# Altium footprint library PCB_Project_PCBparts.PcbLib: 18 footprints (part 1 of 2)
Each footprint in its own frame and in the unit in brackets; x right, y up, seen from the top. Pads: shape width x height; smd on the part's side, far side on the other; paste and mask are expansions set on the pad; w line width, h text height; cw(c..) or ccw(c..) is an arc to the next point about the centre after c.
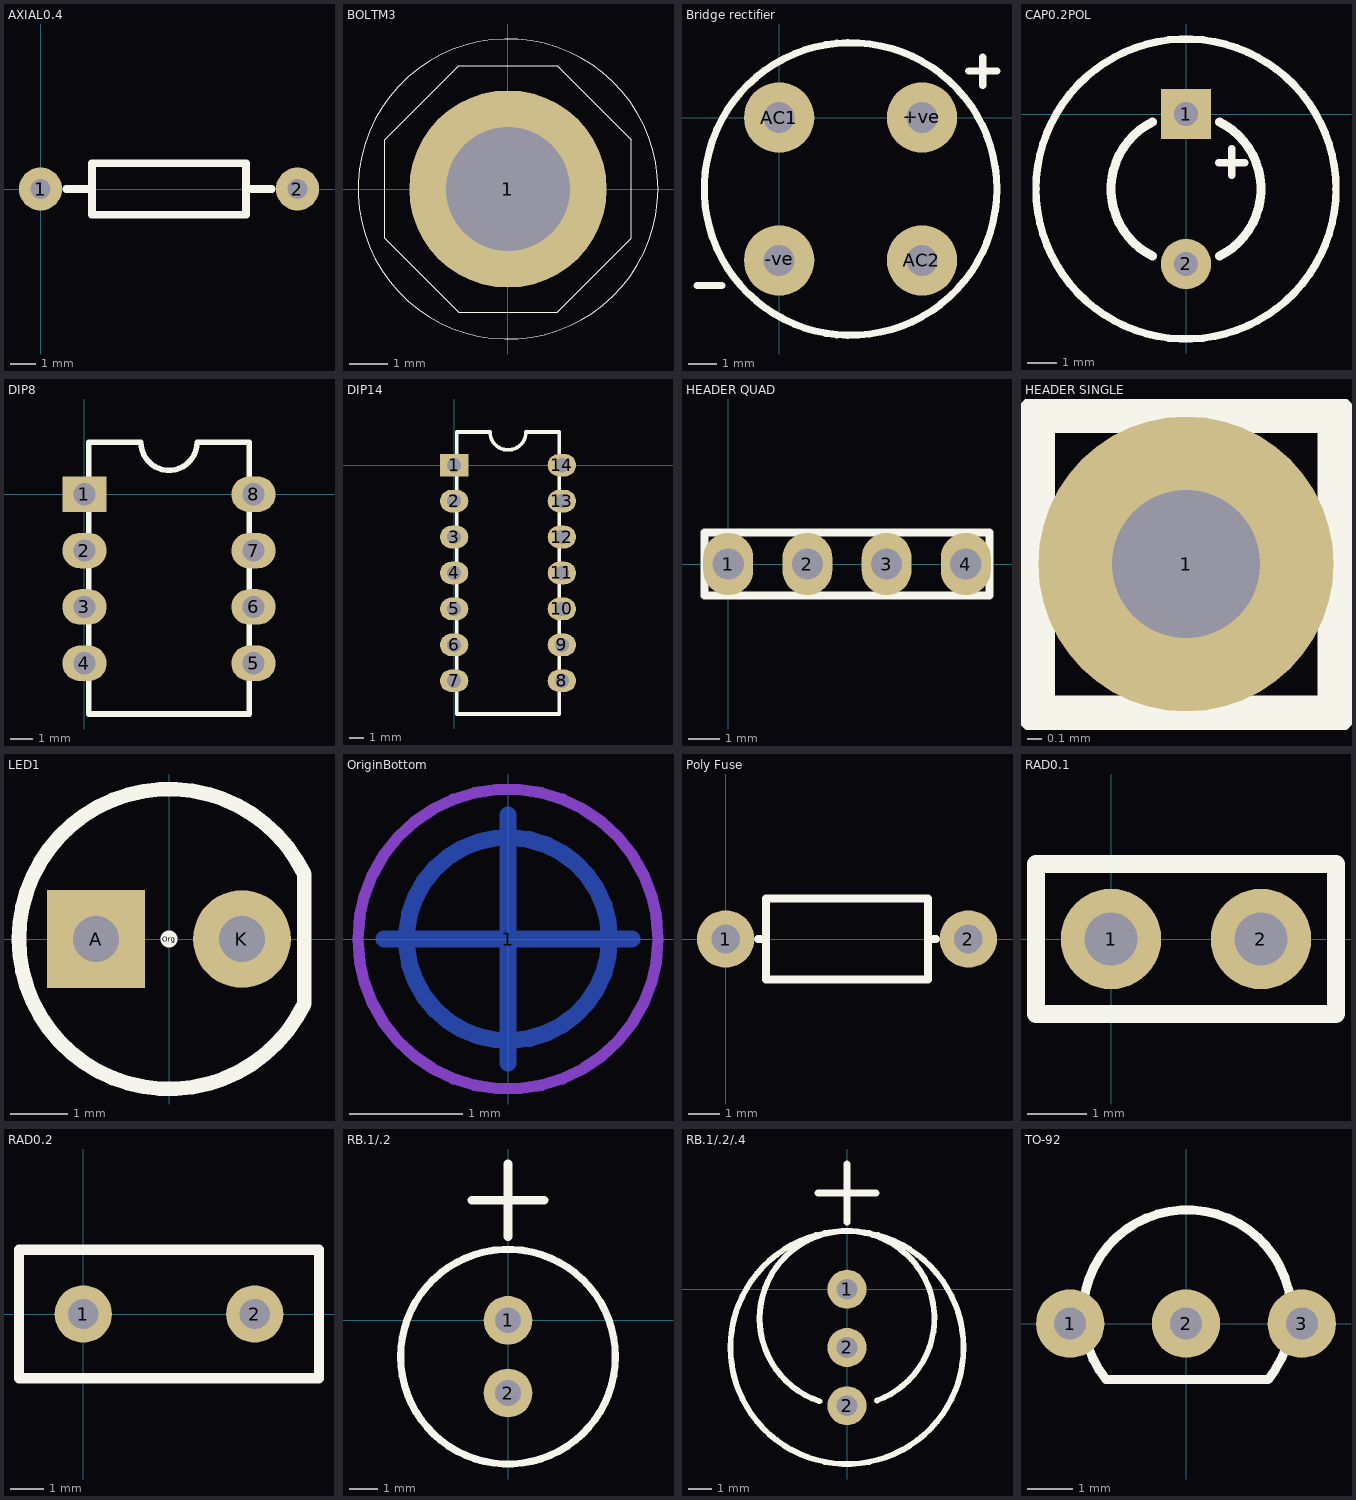
[diagram p0: the footprints below, top view; thin cyan lines are the x and y axes]

## AXIAL0.4 [mm]
pads (2):
  round 1.7 hole 0.8: 1(0,0) 2(10.16,0)
Top Overlay:
  lines w0.305: 1.016,0 2.032,0 ; 8.128,0 9.144,0 ; 2.032,-1.016 2.032,1.016 8.128,1.016 8.128,-1.016 2.032,-1.016
3D body "SW3DPS-AXIAL0_4_33K-DEFAULT.STEP": height 3.79, standoff -2.29, extent -0.279,-1.778 10.439,1.743

## BOLTM3 [mm]
pads (1):
  round 5.08 hole 3.2: 1(0,0)
Top Overlay:
  circle w0.025: c0,0 r1.524
  circle w0.025: c0,0 r3.861
  lines w0.025: -3.175,-1.27 -1.27,-3.175 1.27,-3.175 3.175,-1.27 3.175,1.27 1.27,3.175 -0.635,3.175 -1.27,3.175 -3.175,1.27 -3.175,-1.27
3D body "User Library-M3x0_5xL Phillips Panhead Screw4mm.STEP": height 3.14, standoff -3.24, extent -2.8,-2.8 2.8,2.8

## Bridge rectifier [mm]
pads (4):
  round 2.5 hole 1.1: +ve(5.08,0) -ve(0,-5.08) AC1(0,0) AC2(5.08,-5.08)
Top Overlay:
  circle w0.254: c2.54,-2.54 r5.204
  lines w0.254: -2.921,-5.969 -2.032,-5.969 ; 6.731,1.651 7.747,1.651 ; 7.239,1.143 7.239,2.159
3D body "User Library-WOB.STEP": height 5.95, standoff -3.15, extent -2.029,-7.214 7.261,2.086

## CAP0.2POL [mm]
height 8
pads (2):
  rect 1.7x1.7 hole 0.8: 1(0,0)
  round 1.7 hole 0.8: 2(0,-5.08)
Top Overlay:
  circle w0.254: c0,-2.54 r5.08
  lines w0.254: 1.105,-1.643 1.994,-1.643 ; 1.541,-2.072 1.541,-1.183
  lines w0.305: -1.136,-4.812 cw(c0,-2.54) -1.136,-0.268 ; 1.136,-4.812 ccw(c0,-2.54) 1.136,-0.268
3D body "User Library-CapAluRadial_D100H200.STEP": height 22, standoff -3, extent -5.243,-7.79 5.243,2.71

## DIP8 [mm] "DUAL INLINE PACKAGE 8"
pads (8):
  rect 2x1.6 hole 1: 1(0,0)
  oval 2x1.6 hole 1: 2(0,-2.54) 3(0,-5.08) 4(0,-7.62) 5(7.62,-7.62) 6(7.62,-5.08) 7(7.62,-2.54) 8(7.62,0)
Top Overlay:
  lines w0.254: 0.191,-9.906 0.191,2.349 2.54,2.349 ccw(c3.81,2.349) 5.08,2.349 7.429,2.349 7.429,-9.906 0.191,-9.906

## DIP14 [mm] "74HC04 Hex Invertor"
pads (14):
  rect 2x1.6 hole 1: 1(0,0)
  oval 2x1.6 hole 1: 2(0,-2.54) 3(0,-5.08) 4(0,-7.62) 5(0,-10.16) 6(0,-12.7) 7(0,-15.24) 8(7.62,-15.24) 9(7.62,-12.7) 10(7.62,-10.16) 11(7.62,-7.62) 12(7.62,-5.08) 13(7.62,-2.54) 14(7.62,0)
Top Overlay:
  lines w0.254: 0.191,-17.59 0.191,2.349 2.54,2.349 ccw(c3.81,2.349) 5.08,2.349 7.429,2.349 7.429,-17.59 0.191,-17.59

## HEADER QUAD [mm]
pads (4):
  oval 1.6x2 hole 1: 1(0,0) 2(2.54,0) 3(5.08,0) 4(7.62,0)
Top Overlay:
  lines w0.254: -0.762,-1.016 -0.762,1.016 8.382,1.016 8.382,-0.762 8.382,-1.016 -0.762,-1.016

## HEADER SINGLE [mm]
pads (1):
  round 2 hole 1: 1(0,0)
Top Overlay:
  lines w0.254: -1.016,-1.016 1.016,-1.016 1.016,1.016 -1.016,1.016 -1.016,-1.016

## LED1 [mm]
height 8
pads (3):
  rect 1.7x1.7 hole 0.8: A(-1.27,0)
  round 1.7 hole 0.8: K(1.27,0)
  round 0.3 on Top Overlay: Org(0,0)
Top Overlay:
  lines w0.254: 2.355,-1.125 cw(c0,0) 2.355,1.125 2.355,-1.125
3D body "User Library-LEDd5B.STEP": height 12.31, standoff -2.49, extent -2.98,-3.01 2.44,3.01

## OriginBottom [mm]
pads (1):
  round 2.5 on Bottom Solder: 1(0,0)
Bottom Layer:
  circle w0.15: c0,0 r0.9
  lines w0.15: -1.1,0 1.1,0 ; 0,-1.1 0,1.1
Bottom Layer keep-out:
  circle w0.1: c0,0 r1.329

## Poly Fuse [mm] "Poly Fuse 100mA"
pads (2):
  round 1.8 hole 0.9: 1(0,0) 2(7.62,0)
Top Overlay:
  lines w0.254: 1.016,0 1.27,0 ; 6.35,0 6.604,0 ; 1.27,-1.27 6.35,-1.27 6.35,1.27 1.27,1.27 1.27,-1.27

## RAD0.1 [mm]
pads (2):
  round 1.7 hole 0.9: 1(0,0) 2(2.54,0)
Top Overlay:
  lines w0.305: -1.27,-1.27 3.81,-1.27 3.81,1.27 -1.27,1.27 -1.27,-1.27
3D body "User Library-CAPRR250W40L460T300H750_WIMA_0C.STEP": height 7.75, standoff -2.25, extent -1.03,-1.5 3.57,1.5

## RAD0.2 [mm]
pads (2):
  round 1.7 hole 0.9: 1(0,0) 2(5.08,0)
Top Overlay:
  lines w0.305: -1.905,-1.905 -1.905,1.905 6.985,1.905 6.985,-1.905 -1.905,-1.905
3D body "User Library-TDK_CAP_CK45_.STEP": height 12.5, standoff -5, extent -2.882,-2.5 8.115,2.5

## RB.1/.2 [mm]
pads (2):
  round 1.7 hole 0.9: 1(0,0) 2(0,-2.54)
Top Overlay:
  circle w0.254: c0,-1.27 r3.75
  lines w0.305: -1.27,4.191 1.27,4.191 ; 0,2.921 0,5.461
3D body "User Library-Cap 6_3x11.STEP": height 11.5, standoff -18.5, extent -3.124,-4.42 3.176,1.88

## RB.1/.2/.4 [mm]
pads (3):
  round 1.7 hole 0.9: 1(0,0) 2(0,-5.08) 2(0,-2.54)
Top Overlay:
  circle w0.254: c0,-2.54 r5.08
  lines w0.254: -1.205,-4.884 cw(c0,-1.27) 1.302,-4.851
  lines w0.305: -1.27,4.191 1.27,4.191 ; 0,2.921 0,5.461
3D body "User Library-CapAluRadial_D100H200.STEP": height 22, standoff -3, extent -5.243,-7.79 5.243,2.71

## TO-92 [mm]
pads (3):
  round 1.5 hole 0.7: 1(-2.54,0) 2(0,0) 3(2.54,0)
Top Overlay:
  lines w0.2: -1.751,-1.227 cw(c0.025,0.212) 1.802,-1.227 -1.751,-1.227
3D body "SW3dPS-TO92.STEP": height 8.7, standoff -2.6, extent -2.765,-1.55 2.765,2.544